# Altium schematic symbol library USB.SCHLIB: 1 symbol
Pins are listed as number, name and electrical type; pins without a type are passive.

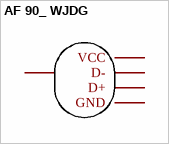
[diagram p0: symbol AF 90_ WJDG]

## AF 90_ WJDG
designator USB??
Add into BOM: yes; Connector Type: Type-A; Number of Ports: 1; Number of Contacts: 4P; Current Rating - Power (Max): 1.5A; Supplier: LCSC; Supplier Part: C456018; JLCPCB Part Class: Extended Part; Datasheet: https://atta.szlcsc.com/upload/public/pdf/source/20191113/C456018_B104E062BEB8E11E57E63560E04EE13A.pdf; Convert to PCB: yes; Standard: USB 2.0
footprint USB-A-TH_AF-WJDG
pins: 1 VCC, 2 D-, 3 D+, 4 GND, 5 SHLD